# Altium schematic symbol library 2 Sided Board Layer Stack.Schlib: 1 symbol
Pins are listed as number, name and electrical type; pins without a type are passive.

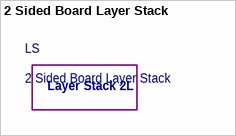
[diagram p0: symbol 2 Sided Board Layer Stack]

## 2 Sided Board Layer Stack
designator LS
text: Layer Stack 2L